# Altium schematic symbol library Schlib1.SchLib: 4 symbols
Pins are listed as number, name and electrical type; pins without a type are passive.

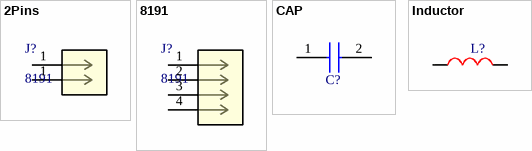
[diagram p0: symbols 2Pins to Inductor]

## 2Pins
designator J?, comment 8191
No Description Available; Mfr_Name: Keystone Electronics; Copyright: Copyright (C) 2022 Ultra Librarian. All rights reserved.; Manufacturer_Part_Number: 8191; RefDes: RefDes; Type: DEV
footprint TermIND
pins: 1, 1

## 8191
designator J?
No Description Available; Mfr_Name: Keystone Electronics; Copyright: Copyright (C) 2022 Ultra Librarian. All rights reserved.; Manufacturer_Part_Number: 8191; RefDes: RefDes; Type: DEV
footprint CONN_8191_KEY (Footprint not found)
pins: 1, 2, 3, 4

## CAP
designator C?  (value not drawn)
Capacitor; Manufacturer_Name: Kemet; Manufacturer_Part_Number: C1206X475K3RACAUTO7210; Datasheet Link: https://www.mouser.com/datasheet/2/212/1/KEM_C1078_X7R_FT_CAP_AUTO_SMD-1103315.pdf; Height: 1.95mm; Mouser Part Number: 80-C1206X475K3RAUTLR; Mouser Price/Stock: https://www.mouser.co.uk/ProductDetail/KEMET/C1206X475K3RACAUTO7210?qs=ds50AKTGxA8JAgT9kv9azQ%3D%3D
footprint Capacitor
pins: 1, 2

## Inductor
designator L?  (value not drawn)
Transformer, High Frequency Reactor, 25 mH, 5A, Screw Terminals, 197 Series; Manufacturer: Hammond; Manufacturer Part Number: 197M5; Supplier 1: Newark; Stock 1: 19; Pricing 1: 1=269,56000 (USD); ComponentLink1URL: https://datasheet.octopart.com/197M5-Hammond-datasheet-153473799.pdf?src-supplier=Allied+Electronics; ComponentLink1Description: https://datasheet.octopart.com/197M5-Hammond-datasheet-153473799.pdf?src-supplier=Allied+Electronics; ComponentLink2URL: https://datasheet.octopart.com/197M5-Hammond-datasheet-151585935.pdf?src-supplier=Master+Electronics; ComponentLink2Description: https://datasheet.octopart.com/197M5-Hammond-datasheet-151585935.pdf?src-supplier=Master+Electronics; Supplier Part Number 1: 31AJ3771
pins: 1, 2